# Altium footprint library usbc.PcbLib: 1 footprints
Each footprint in its own frame and in the unit in brackets; x right, y up, seen from the top. Pads: shape width x height; smd on the part's side, far side on the other; paste and mask are expansions set on the pad; w line width, h text height; cw(c..) or ccw(c..) is an arc to the next point about the centre after c.
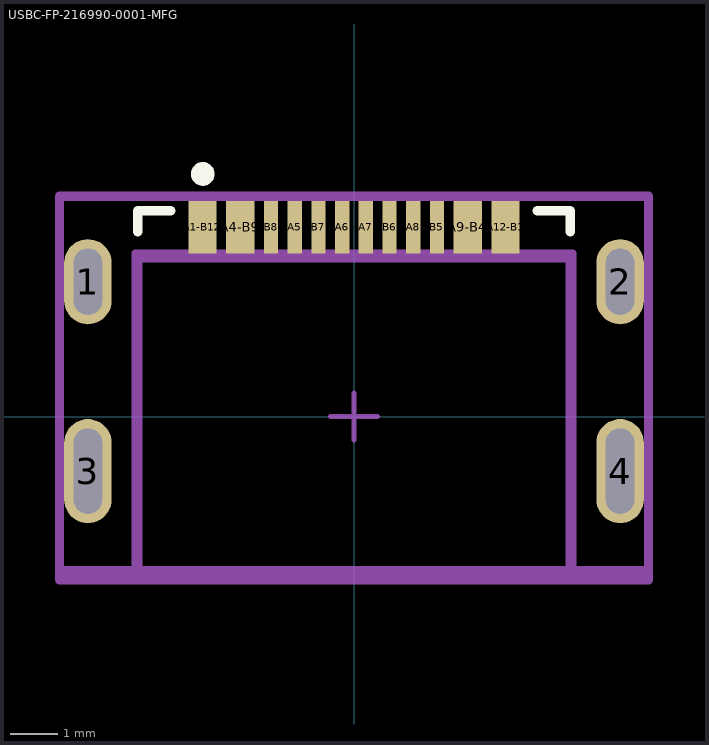
[diagram p0: the footprint, top view; thin cyan lines are the x and y axes]

## USBC-FP-216990-0001-MFG [mm]
pads (16):
  rrect100% 1x1.8 hole 0.6 slot 1.4 at 90 deg paste-1000 mask+0: 1(-5.62,2.85) 2(5.62,2.85)
  rrect100% 1x2.2 hole 0.6 slot 1.8 at 90 deg paste-1000 mask+0: 3(-5.62,-1.15) 4(5.62,-1.15)
  rect 0.6x1.1 smd paste+0 mask+0: A1-B12(-3.2,4) A4-B9(-2.4,4) A9-B4(2.4,4) A12-B1(3.2,4)
  rect 0.3x1.1 smd paste+0 mask+0: A5(-1.25,4) A6(-0.25,4) A7(0.25,4) A8(1.25,4) B5(1.75,4) B6(0.75,4) B7(-0.75,4) B8(-1.75,4)
Top Overlay:
  circle w0.25: c-3.195,5.125 r0.125
  lines w0.2: -4.57,3.9 -4.57,4.35 -3.875,4.35 ; 3.875,4.35 4.57,4.35 4.57,3.9
Board Outline:
  lines w0.15: -4.62,-3.25 -4.62,3.45 4.62,3.45 4.62,-3.25
Top Assembly:
  lines w0.2: -6.22,-3.45 6.22,-3.45 6.22,4.65 -6.22,4.65 -6.22,-3.45
  text ".Designator" at 0,0.788 h1
Top 3D Body:
  lines w0.2: -6.22,-3.25 6.22,-3.25 ; -4.57,-3.35 4.57,-3.35 4.57,3.35 -4.57,3.35 -4.57,-3.35
Top Courtyard:
  lines w0.2: -6.22,-3.45 6.22,-3.45 6.22,4.65 -6.22,4.65 -6.22,-3.45
Top Component Center:
  lines w0.1: -0.5,0 0.5,0 ; 0,-0.5 0,0.5
3D body "Conn_Molex_216990-0001_eec.STEP": height 0.25, standoff 0, extent -6.22,-3.45 6.22,4.65